# EAGLE library part RSIP_DIP0.1_1X10 (library RCL)
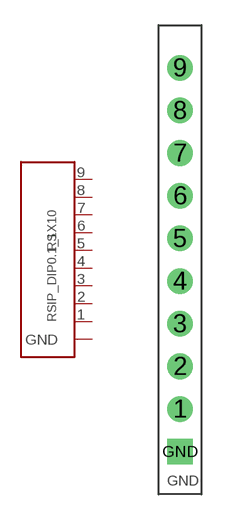
[diagram p0: symbol with the pads of DIP0.1-10PIN; footprint DIP0.1-10PIN]

Designator prefix RS

## RSIP_DIP0.1_1X10  [DIP0.1-10PIN]
1  1
2  2
3  3
4  4
5  5
6  6
7  7
8  8
9  9
GND  GND

## Footprint DIP0.1-10PIN (pad centres in mm)
drill 1.016: 1 0,-7.62; 2 0,-5.08; 3 0,-2.54; 4 0,0; 5 0,2.54; 6 0,5.08; 7 0,7.62; 8 0,10.16; 9 0,12.7
drill 1.016 square: GND 0,-10.16